# Altium footprint library Connectors.PcbLib: 21 footprints (part 2 of 2)
Each footprint in its own frame and in the unit in brackets; x right, y up, seen from the top. Pads: shape width x height; smd on the part's side, far side on the other; paste and mask are expansions set on the pad; w line width, h text height; cw(c..) or ccw(c..) is an arc to the next point about the centre after c.
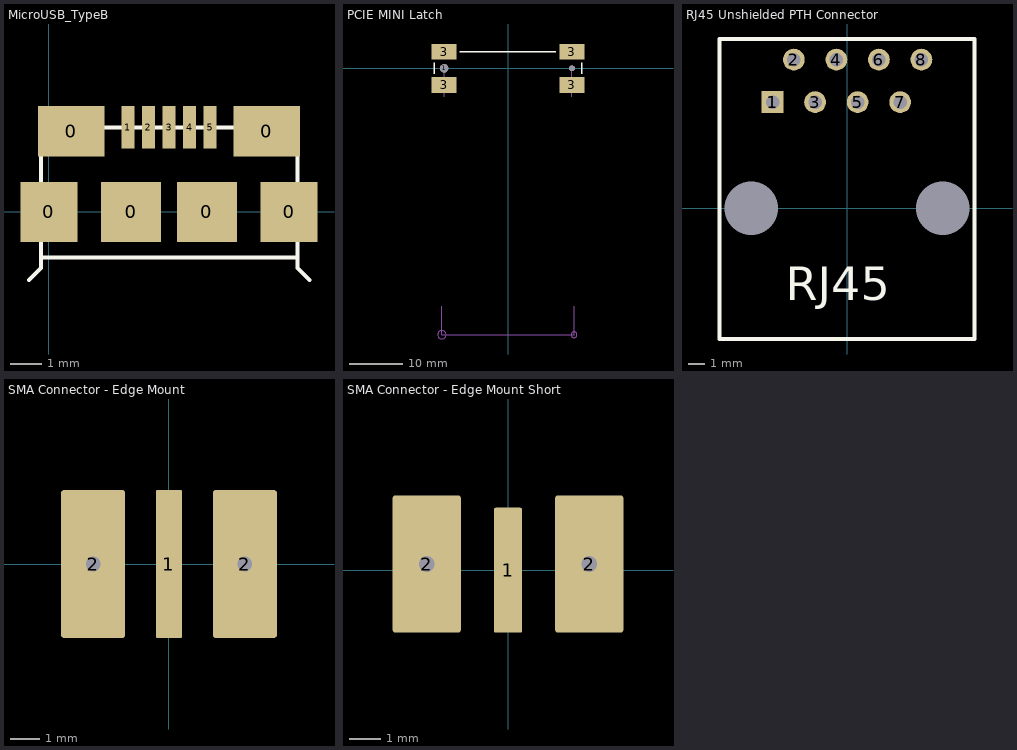
[diagram p1: the footprints below, top view; thin cyan lines are the x and y axes]

## MicroUSB_TypeB [mm]
pads (11):
  rect 1.8x1.9 smd: 0(0,0) 0(7.6,0)
  rect 2.1x1.6 smd: 0(0.7,2.55) 0(6.9,2.55)
  rect 1.9x1.9 smd: 0(2.6,0) 0(5,0)
  rect 0.4x1.35 smd: 1(2.5,2.675) 2(3.15,2.675) 3(3.8,2.675) 4(4.45,2.675) 5(5.1,2.675)
Top Overlay:
  lines w0.125: -0.635,-2.159 -0.254,-1.778 -0.254,-1.45 ; 7.866,2.667 -0.254,2.667 -0.254,-1.45 ; 7.874,2.675 7.874,-1.45 ; 8.255,-2.159 7.874,-1.778 7.874,-1.45 ; -0.254,-1.45 7.874,-1.45
3D body "473460001.stp": height 2.72, standoff -0.22, extent -0.18,-2.399 7.8,3.031

## PCIE MINI Latch [mm] "PCIE Mini Latch"
pads (6):
  round 1.6 hole 1.6 unplated: 1(-12.1,0)
  round 1.1 hole 1.1 unplated: 1(12.1,0)
  rect 4.8x3 smd: 3(-12.1,-3.15) 3(-12.1,3.15) 3(12.1,-3.15) 3(12.1,3.15)
Top Overlay:
  lines w0.254: -13.97,-1.016 -13.97,1.016 ; -9.144,3.175 9.017,3.175 ; 13.97,-1.016 13.97,1.016
Mechanical 16:
  circle w0.127: c-12.5,-50.4 r0.8
  circle w0.127: c12.5,-50.4 r0.55
  lines w0.127: -12.5,-45 -12.5,-50.4 12.5,-50.4 12.5,-45 ; -12.1,-5.4 -12.1,0 ; 12.1,-5.4 12.1,0

## RJ45 Unshielded PTH Connector [mm] "Amphenol 54601-908WPLF Unshielded RJ45 PTH Connector"
height 11.5
pads (10):
  round 0 hole 3.2 unplated: 0(-5.716,0) 0(5.716,0)
  rect 1.3x1.3 hole 0.8: 1(-4.444,6.35)
  round 1.3 hole 0.8: 2(-3.174,8.89) 3(-1.904,6.35) 4(-0.634,8.89) 5(0.636,6.35) 6(1.906,8.89) 7(3.176,6.35) 8(4.446,8.89)
Top Overlay:
  lines w0.254: -7.62,-7.8 -7.62,10.12 7.62,10.12 7.62,-7.8 -7.62,-7.8
  text "RJ45" at -3.651,-5.477 h2
3D body "s54601-908wplf.stp": height 11.5, standoff -3.75, extent -7.62,-7.8 7.62,10.2

## SMA Connector - Edge Mount [mm] "Edge Mount SMA Connector"
height 3.81
pads (3):
  rrect10% 0.9x5.08 smd paste+0 mask+0.05: 1(0,0)
  rrect10% 2.2x5.08 hole 0.5 mask+0.05: 2(-2.6,0) 2(2.6,0)
3D body "SMA-J-P-H-ST-EM1.stp": height 3.81, standoff -2.54, extent -3.175,-12.13 3.175,1.2

## SMA Connector - Edge Mount Short [mm] "Edge Mount SMA Connector - Shorter Footprint"
height 3.81
pads (3):
  rrect10% 0.9x4 smd paste+0 mask+0.05: 1(0,0)
  rrect10% 2.2x4.4 hole 0.5 mask+0.05: 2(-2.6,0.2) 2(2.6,0.2)
3D body "SMA-J-P-H-ST-EM1.stp": height 3.81, standoff -2.54, extent -3.175,-11.63 3.175,1.7